# EAGLE library part CON-TRACKBALL (library zz-m-pad-2.1)
Various FFC/FPC connectors for the ITT 8mm trackball with 11pins. - AVX - Molex Please send any comments to: messi@users.sourceforge.net
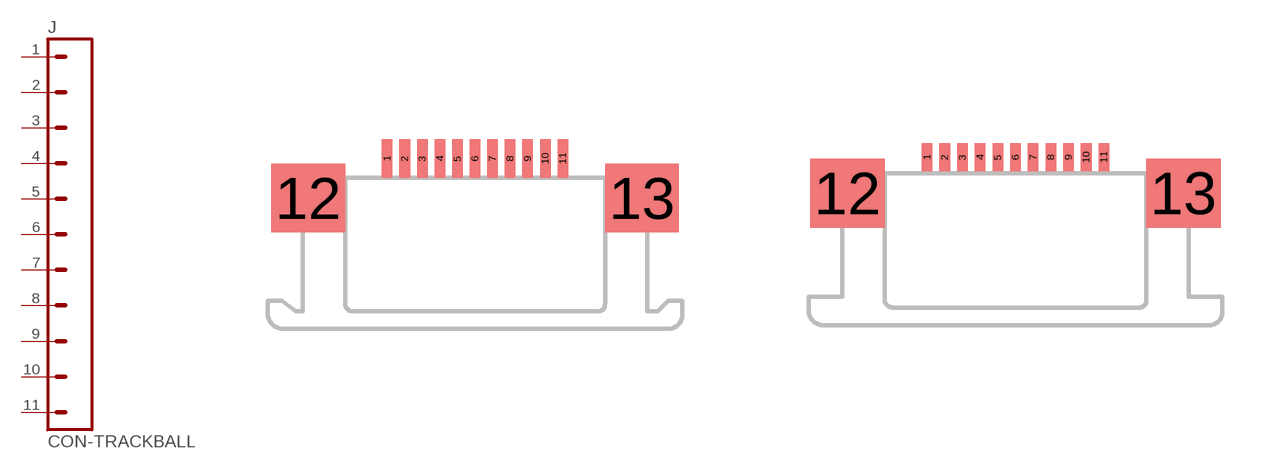
[diagram p155: symbol with the pads of AVX_621*_626*; footprints AVX_621*_626*, MOLEX_52746]

Designator prefix J

## CON-TRACKBALL-1  [AVX_621*_626*]
1  1  pas
2  2  pas
3  3  pas
4  4  pas
5  5  pas
6  6  pas
7  7  pas
8  8  pas
9  9  pas
10  10  pas
11  11  pas

## CON-TRACKBALL-2  [MOLEX_52746]
Pads as for AVX_621*_626*

## CON-TRACKBALL-3  [MOLEX_52893]
Pads as for AVX_621*_626*

## Footprint AVX_621*_626* (pad centres in mm)
AVX 0.50mm Pitch Series (6210/6260 Bottom Contact Type) and (6212/6262 Top Contact Type) ZIF Right Angle SMT Specifications: Number of Contacts from 5 to 40 2000 Connectors per Tape & Reel Voltage - 50V Current Rating - 0.4 amp max. Dielectric Withstanding Voltage ? 200V RMS min. Operating Temperature (-40°C - +85°C) Contact Material - phosphor bronze (tin-lead plated) Insulator Material - nylon 46, natural color Slider Material - PPS, natural color (UL 94 V-O) FFC/FPC Thickness 0.3 ±0.05mm (0.012 ±0.002") Profile Height - 2.00mm Please send any comments to: messi@users.sourceforge.net
smd 0.3 x 1.1: 1 -2.5,0.55; 2 -2,0.55; 3 -1.5,0.55; 4 -1,0.55; 5 -0.5,0.55; 6 0,0.55; 7 0.5,0.55; 8 1,0.55; 9 1.5,0.55; 10 2,0.55; 11 2.5,0.55
smd 2.1 x 1.95: 12 -4.75,-0.575; 13 4.75,-0.575

## Footprint MOLEX_52746 (pad centres in mm)
Molex 0.5 FPC Connector ZIF for SMT (Bottom contact) SD-52746-**17 Please send any comments to: messi@users.sourceforge.net
smd 0.3 x 0.8: 1 -2.5,0.45; 2 -2,0.45; 3 -1.5,0.45; 4 -1,0.45; 5 -0.5,0.45; 6 0,0.45; 7 0.5,0.45; 8 1,0.45; 9 1.5,0.45; 10 2,0.45; 11 2.5,0.45
smd 2.1 x 1.95: 12 -4.75,-0.575; 13 4.75,-0.575

## Footprint MOLEX_52893 (pad centres in mm)
Molex 0.5 FPC Connector ZIF for SMT (Bottom contact) SD-52893-**17 Please send any comments to: messi@users.sourceforge.net
smd 0.3 x 1.4: 1 -2.5,0.7; 2 -2,0.7; 3 -1.5,0.7; 4 -1,0.7; 5 -0.5,0.7; 6 0,0.7; 7 0.5,0.7; 8 1,0.7; 9 1.5,0.7; 10 2,0.7; 11 2.5,0.7
smd 1.6 x 2.2: 12 -5.15,-2.45; 13 5.15,-2.45